# EAGLE library part MC100EL15DG (library On Semiconductor)
5V ECL 1:4 Clock Distribution Chip
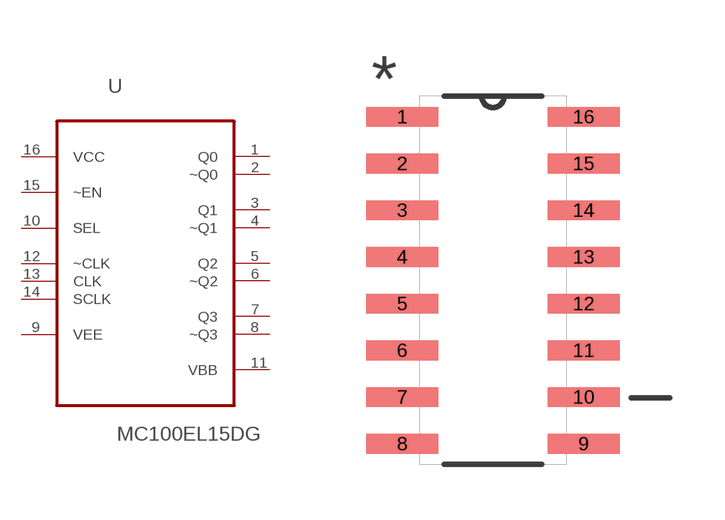
[diagram p79: symbol with the pads of SOIC127P600X175-16N; footprint SOIC127P600X175-16N]

Designator prefix U

## MC100EL15DG (MPN: MC100EL15DG; OC_FARNELL: 1258372; OC_NEWARK: 42K0357; PACKAGE: SOIC-16; SUPPLIER: ON SEMICONDUCTOR)  [SOIC127P600X175-16N]
1  Q0  out
2  ~Q0  out
3  Q1  out
4  ~Q1  out
5  Q2  out
6  ~Q2  out
7  Q3  out
8  ~Q3  out
9  VEE  pas
10  SEL  in
11  VBB  in
12  ~CLK  in
13  CLK  in
14  SCLK  in
15  ~EN  in
16  VCC  pwr

## Footprint SOIC127P600X175-16N (pad centres in mm)
smd 1.956 x 0.533: 1 -2.464,4.445; 2 -2.464,3.175; 3 -2.464,1.905; 4 -2.464,0.635; 5 -2.464,-0.635; 6 -2.464,-1.905; 7 -2.464,-3.175; 8 -2.464,-4.445; 9 2.464,-4.445; 10 2.464,-3.175; 11 2.464,-1.905; 12 2.464,-0.635; 13 2.464,0.635; 14 2.464,1.905; 15 2.464,3.175; 16 2.464,4.445